# EAGLE library part MOTION/POSITION-MPU-9150(LGA24) (library Seeed-OPL-sensor)
314080003
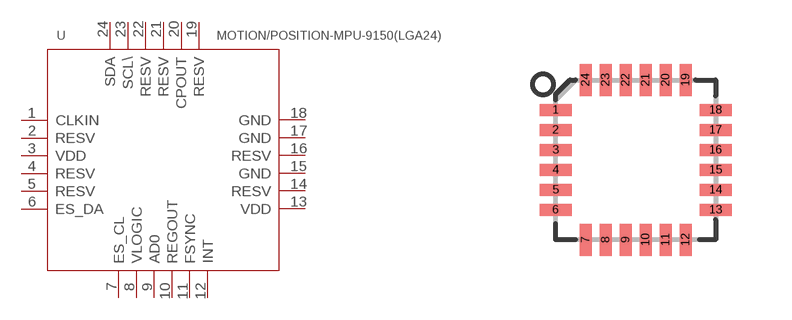
[diagram p19: symbol with the pads of LGA24-0.5-4X4MM; footprint LGA24-0.5-4X4MM]

Designator prefix U

## MOTION/POSITION-MPU-9150(LGA24) (MPN: MPU-9150; VALUE: MPU-9150)  [LGA24-0.5-4X4MM]
1  CLKIN
2  RESV
3  VDD
4  RESV
5  RESV
6  ES_DA
7  ES_CL
8  VLOGIC
9  AD0
10  REGOUT
11  FSYNC
12  INT
13  VDD
14  RESV
15  GND
16  RESV
17  GND
18  GND
19  RESV
20  CPOUT
21  RESV
22  RESV
23  SCL\
24  SDA

## Footprint LGA24-0.5-4X4MM (pad centres in mm)
smd 0.8 x 0.3: 1 -2,1.25; 2 -2,0.75; 3 -2,0.25; 4 -2,-0.25; 5 -2,-0.75; 6 -2,-1.25; 13 2,-1.25; 14 2,-0.75; 15 2,-0.25; 16 2,0.25; 17 2,0.75; 18 2,1.25
smd 0.3 x 0.8: 7 -1.25,-2; 8 -0.75,-2; 9 -0.25,-2; 10 0.25,-2; 11 0.75,-2; 12 1.25,-2; 19 1.25,2; 20 0.75,2; 21 0.25,2; 22 -0.25,2; 23 -0.75,2; 24 -1.25,2